# Altium footprint library Package_SO.PcbLib: 393 footprints (part 16 of 25)
Each footprint in its own frame and in the unit in brackets; x right, y up, seen from the top. Pads: shape width x height; smd on the part's side, far side on the other; paste and mask are expansions set on the pad; w line width, h text height; cw(c..) or ccw(c..) is an arc to the next point about the centre after c.
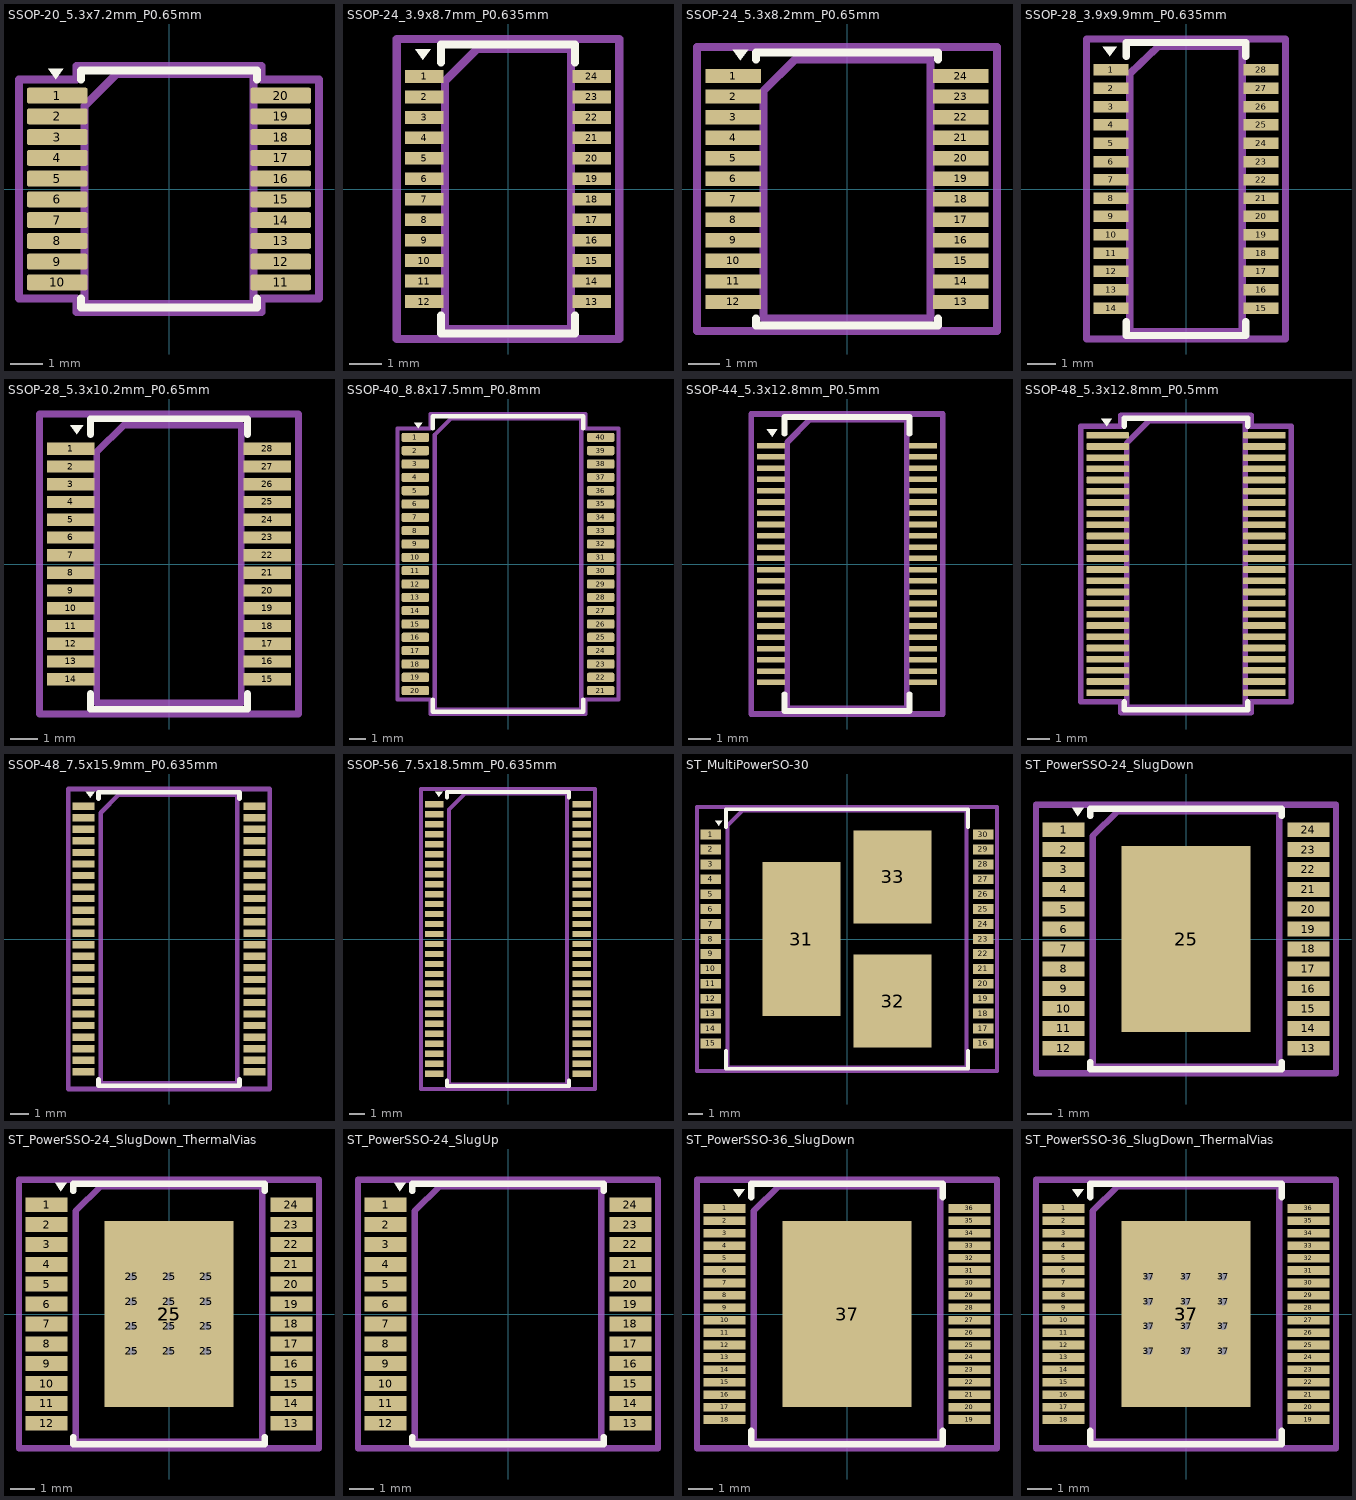
[diagram p15: the footprints below, top view; thin cyan lines are the x and y axes]

## SSOP-20_5.3x7.2mm_P0.65mm [mm]
pads (20):
  rrect25% 1.9x0.5 smd: 1(-3.5,2.925) 2(-3.5,2.275) 3(-3.5,1.625) 4(-3.5,0.975) 5(-3.5,0.325) 6(-3.5,-0.325) 7(-3.5,-0.975) 8(-3.5,-1.625) 9(-3.5,-2.275) 10(-3.5,-2.925) 11(3.5,-2.925) 12(3.5,-2.275) 13(3.5,-1.625) 14(3.5,-0.975) 15(3.5,-0.325) 16(3.5,0.325) 17(3.5,0.975) 18(3.5,1.625) 19(3.5,2.275) 20(3.5,2.925)
F.SilkS:
  region: -3.55,3.435 -3.79,3.765 -3.31,3.765
  lines w0.254: -2.76,-3.435 -2.76,-3.71 0,-3.71 2.76,-3.71 2.76,-3.435 ; -2.76,3.435 -2.76,3.71 0,3.71 2.76,3.71 2.76,3.435
Top Assembly:
  lines w0.254: -2.65,-3.6 2.65,-3.6 2.65,3.6 -1.65,3.6 -2.65,2.6 -2.65,-3.6
  text "'.Designator'" at -4.047,-0.84 h1
Top Courtyard:
  lines w0.254: -4.7,-3.43 -2.9,-3.43 -2.9,-3.85 2.9,-3.85 2.9,-3.43 4.7,-3.43 4.7,3.43 2.9,3.43 2.9,3.85 -2.9,3.85 -2.9,3.43 -4.7,3.43 -4.7,-3.43
Top Designator:
  text ".Designator" at -7.618,-0.508 h1.52

## SSOP-24_3.9x8.7mm_P0.635mm [mm]
pads (24):
  rect 1.2x0.4 smd: 1(-2.6,3.492) 2(-2.6,2.857) 3(-2.6,2.222) 4(-2.6,1.587) 5(-2.6,0.953) 6(-2.6,0.318) 7(-2.6,-0.318) 8(-2.6,-0.953) 9(-2.6,-1.587) 10(-2.6,-2.222) 11(-2.6,-2.857) 12(-2.6,-3.492) 13(2.6,-3.492) 14(2.6,-2.857) 15(2.6,-2.222) 16(2.6,-1.587) 17(2.6,-0.953) 18(2.6,-0.318) 19(2.6,0.318) 20(2.6,0.953) 21(2.6,1.587) 22(2.6,2.222) 23(2.6,2.857) 24(2.6,3.492)
F.SilkS:
  region: -2.638,4 -2.877,4.33 -2.398,4.33
  lines w0.254: -2.075,-3.918 -2.075,-4.475 2.075,-4.475 2.075,-3.918 ; -2.075,3.918 -2.075,4.475 2.075,4.475 2.075,3.918
Top Assembly:
  lines w0.254: -1.95,-4.35 1.95,-4.35 1.95,4.35 -0.95,4.35 -1.95,3.35 -1.95,-4.35
  text "'.Designator'" at -3.267,-0.702 h0.8
Top Courtyard:
  lines w0.254: -3.45,-4.65 3.45,-4.65 3.45,4.65 -3.45,4.65 -3.45,-4.65
Top Designator:
  text ".Designator" at -7.618,-0.508 h1.52

## SSOP-24_5.3x8.2mm_P0.65mm [mm]
pads (24):
  rect 1.75x0.45 smd: 1(-3.6,3.575) 2(-3.6,2.925) 3(-3.6,2.275) 4(-3.6,1.625) 5(-3.6,0.975) 6(-3.6,0.325) 7(-3.6,-0.325) 8(-3.6,-0.975) 9(-3.6,-1.625) 10(-3.6,-2.275) 11(-3.6,-2.925) 12(-3.6,-3.575) 13(3.6,-3.575) 14(3.6,-2.925) 15(3.6,-2.275) 16(3.6,-1.625) 17(3.6,-0.975) 18(3.6,-0.325) 19(3.6,0.325) 20(3.6,0.975) 21(3.6,1.625) 22(3.6,2.275) 23(3.6,2.925) 24(3.6,3.575)
F.SilkS:
  region: -3.375,4.075 -3.615,4.405 -3.135,4.405
  lines w0.254: -2.875,-4.1 -2.875,-4.325 2.875,-4.325 2.875,-4.1 ; -2.875,4.1 -2.875,4.325 2.875,4.325 2.875,4.1
Top Assembly:
  lines w0.254: -2.65,-4.1 2.65,-4.1 2.65,4.1 -1.65,4.1 -2.65,3.1 -2.65,-4.1
  text "'.Designator'" at -3.267,-0.702 h0.8
Top Courtyard:
  lines w0.254: -4.75,-4.5 4.75,-4.5 4.75,4.5 -4.75,4.5 -4.75,-4.5
Top Designator:
  text ".Designator" at -7.618,-0.508 h1.52

## SSOP-28_3.9x9.9mm_P0.635mm [mm]
pads (28):
  rect 1.2x0.4 smd: 1(-2.6,4.127) 2(-2.6,3.492) 3(-2.6,2.857) 4(-2.6,2.222) 5(-2.6,1.587) 6(-2.6,0.953) 7(-2.6,0.318) 8(-2.6,-0.318) 9(-2.6,-0.953) 10(-2.6,-1.587) 11(-2.6,-2.222) 12(-2.6,-2.857) 13(-2.6,-3.492) 14(-2.6,-4.127) 15(2.6,-4.127) 16(2.6,-3.492) 17(2.6,-2.857) 18(2.6,-2.222) 19(2.6,-1.587) 20(2.6,-0.953) 21(2.6,-0.318) 22(2.6,0.318) 23(2.6,0.953) 24(2.6,1.587) 25(2.6,2.222) 26(2.6,2.857) 27(2.6,3.492) 28(2.6,4.127)
F.SilkS:
  region: -2.638,4.6 -2.877,4.93 -2.398,4.93
  lines w0.254: -2.075,-4.6 -2.075,-5.08 2.075,-5.08 2.075,-4.6 ; -2.075,4.6 -2.075,5.08 2.075,5.08 2.075,4.6
Top Assembly:
  lines w0.254: -1.95,-4.95 1.95,-4.95 1.95,4.95 -0.95,4.95 -1.95,4 -1.95,-4.95
  text "'.Designator'" at -3.267,-0.702 h0.8
Top Courtyard:
  lines w0.254: -3.45,-5.2 3.45,-5.2 3.45,5.2 -3.45,5.2 -3.45,-5.2
Top Designator:
  text ".Designator" at -7.618,-0.508 h1.52

## SSOP-28_5.3x10.2mm_P0.65mm [mm]
pads (28):
  rect 1.75x0.45 smd: 1(-3.6,4.225) 2(-3.6,3.575) 3(-3.6,2.925) 4(-3.6,2.275) 5(-3.6,1.625) 6(-3.6,0.975) 7(-3.6,0.325) 8(-3.6,-0.325) 9(-3.6,-0.975) 10(-3.6,-1.625) 11(-3.6,-2.275) 12(-3.6,-2.925) 13(-3.6,-3.575) 14(-3.6,-4.225) 15(3.6,-4.225) 16(3.6,-3.575) 17(3.6,-2.925) 18(3.6,-2.275) 19(3.6,-1.625) 20(3.6,-0.975) 21(3.6,-0.325) 22(3.6,0.325) 23(3.6,0.975) 24(3.6,1.625) 25(3.6,2.275) 26(3.6,2.925) 27(3.6,3.575) 28(3.6,4.225)
F.SilkS:
  region: -3.375,4.75 -3.615,5.08 -3.135,5.08
  lines w0.254: -2.875,-4.75 -2.875,-5.325 2.875,-5.325 2.875,-4.75 ; -2.875,4.75 -2.875,5.325 2.875,5.325 2.875,4.75
Top Assembly:
  lines w0.254: -2.65,-5.1 2.65,-5.1 2.65,5.1 -1.65,5.1 -2.65,4.1 -2.65,-5.1
  text "'.Designator'" at -3.267,-0.702 h0.8
Top Courtyard:
  lines w0.254: -4.75,-5.5 4.75,-5.5 4.75,5.5 -4.75,5.5 -4.75,-5.5
Top Designator:
  text ".Designator" at -7.618,-0.508 h1.52

## SSOP-40_8.8x17.5mm_P0.8mm [mm]
pads (40):
  rrect25% 1.625x0.55 smd: 1(-5.563,7.6) 2(-5.563,6.8) 3(-5.563,6) 4(-5.563,5.2) 5(-5.563,4.4) 6(-5.563,3.6) 7(-5.563,2.8) 8(-5.563,2) 9(-5.563,1.2) 10(-5.563,0.4) 11(-5.563,-0.4) 12(-5.563,-1.2) 13(-5.563,-2) 14(-5.563,-2.8) 15(-5.563,-3.6) 16(-5.563,-4.4) 17(-5.563,-5.2) 18(-5.563,-6) 19(-5.563,-6.8) 20(-5.563,-7.6) 21(5.563,-7.6) 22(5.563,-6.8) 23(5.563,-6) 24(5.563,-5.2) 25(5.563,-4.4) 26(5.563,-3.6) 27(5.563,-2.8) 28(5.563,-2) 29(5.563,-1.2) 30(5.563,-0.4) 31(5.563,0.4) 32(5.563,1.2) 33(5.563,2) 34(5.563,2.8) 35(5.563,3.6) 36(5.563,4.4) 37(5.563,5.2) 38(5.563,6) 39(5.563,6.8) 40(5.563,7.6)
F.SilkS:
  region: -5.388,8.135 -5.627,8.465 -5.148,8.465
  lines w0.254: -4.51,-8.135 -4.51,-8.86 0,-8.86 4.51,-8.86 4.51,-8.135 ; -4.51,8.135 -4.51,8.86 0,8.86 4.51,8.86 4.51,8.135
Top Assembly:
  lines w0.254: -4.4,-8.75 4.4,-8.75 4.4,8.75 -3.4,8.75 -4.4,7.75 -4.4,-8.75
  text "'.Designator'" at -4.047,-0.84 h1
Top Courtyard:
  lines w0.254: -6.63,-8.13 -4.65,-8.13 -4.65,-9 4.65,-9 4.65,-8.13 6.63,-8.13 6.63,8.13 4.65,8.13 4.65,9 -4.65,9 -4.65,8.13 -6.63,8.13 -6.63,-8.13
Top Designator:
  text ".Designator" at -7.618,-0.508 h1.52

## SSOP-44_5.3x12.8mm_P0.5mm [mm]
pads (44):
  rect 1.25x0.25 smd: 1(-3.375,5.25) 2(-3.375,4.75) 3(-3.375,4.25) 4(-3.375,3.75) 5(-3.375,3.25) 6(-3.375,2.75) 7(-3.375,2.25) 8(-3.375,1.75) 9(-3.375,1.25) 10(-3.375,0.75) 11(-3.375,0.25) 12(-3.375,-0.25) 13(-3.375,-0.75) 14(-3.375,-1.25) 15(-3.375,-1.75) 16(-3.375,-2.25) 17(-3.375,-2.75) 18(-3.375,-3.25) 19(-3.375,-3.75) 20(-3.375,-4.25) 21(-3.375,-4.75) 22(-3.375,-5.25) 23(3.375,-5.25) 24(3.375,-4.75) 25(3.375,-4.25) 26(3.375,-3.75) 27(3.375,-3.25) 28(3.375,-2.75) 29(3.375,-2.25) 30(3.375,-1.75) 31(3.375,-1.25) 32(3.375,-0.75) 33(3.375,-0.25) 34(3.375,0.25) 35(3.375,0.75) 36(3.375,1.25) 37(3.375,1.75) 38(3.375,2.25) 39(3.375,2.75) 40(3.375,3.25) 41(3.375,3.75) 42(3.375,4.25) 43(3.375,4.75) 44(3.375,5.25)
F.SilkS:
  region: -3.322,5.64 -3.562,5.97 -3.082,5.97
  lines w0.254: -2.77,-5.77 -2.77,-6.52 2.77,-6.52 2.77,-5.77 ; -2.77,5.77 -2.77,6.52 2.77,6.52 2.77,5.77
Top Assembly:
  lines w0.254: -2.65,-6.4 2.65,-6.4 2.65,6.4 -1.65,6.4 -2.65,5.4 -2.65,-6.4
  text "'.Designator'" at -4.047,-0.84 h1
Top Courtyard:
  lines w0.254: -4.25,-6.65 4.25,-6.65 4.25,6.65 -4.25,6.65 -4.25,-6.65
Top Designator:
  text ".Designator" at -7.618,-0.508 h1.52

## SSOP-48_5.3x12.8mm_P0.5mm [mm]
pads (48):
  rrect25% 1.9x0.3 smd: 1(-3.5,5.75) 2(-3.5,5.25) 3(-3.5,4.75) 4(-3.5,4.25) 5(-3.5,3.75) 6(-3.5,3.25) 7(-3.5,2.75) 8(-3.5,2.25) 9(-3.5,1.75) 10(-3.5,1.25) 11(-3.5,0.75) 12(-3.5,0.25) 13(-3.5,-0.25) 14(-3.5,-0.75) 15(-3.5,-1.25) 16(-3.5,-1.75) 17(-3.5,-2.25) 18(-3.5,-2.75) 19(-3.5,-3.25) 20(-3.5,-3.75) 21(-3.5,-4.25) 22(-3.5,-4.75) 23(-3.5,-5.25) 24(-3.5,-5.75) 25(3.5,-5.75) 26(3.5,-5.25) 27(3.5,-4.75) 28(3.5,-4.25) 29(3.5,-3.75) 30(3.5,-3.25) 31(3.5,-2.75) 32(3.5,-2.25) 33(3.5,-1.75) 34(3.5,-1.25) 35(3.5,-0.75) 36(3.5,-0.25) 37(3.5,0.25) 38(3.5,0.75) 39(3.5,1.25) 40(3.5,1.75) 41(3.5,2.25) 42(3.5,2.75) 43(3.5,3.25) 44(3.5,3.75) 45(3.5,4.25) 46(3.5,4.75) 47(3.5,5.25) 48(3.5,5.75)
F.SilkS:
  region: -3.55,6.16 -3.79,6.49 -3.31,6.49
  lines w0.254: -2.76,-6.16 -2.76,-6.51 0,-6.51 2.76,-6.51 2.76,-6.16 ; -2.76,6.16 -2.76,6.51 0,6.51 2.76,6.51 2.76,6.16
Top Assembly:
  lines w0.254: -2.65,-6.4 2.65,-6.4 2.65,6.4 -1.65,6.4 -2.65,5.4 -2.65,-6.4
  text "'.Designator'" at -4.047,-0.84 h1
Top Courtyard:
  lines w0.254: -4.7,-6.15 -2.9,-6.15 -2.9,-6.65 2.9,-6.65 2.9,-6.15 4.7,-6.15 4.7,6.15 2.9,6.15 2.9,6.65 -2.9,6.65 -2.9,6.15 -4.7,6.15 -4.7,-6.15
Top Designator:
  text ".Designator" at -7.618,-0.508 h1.52

## SSOP-48_7.5x15.9mm_P0.635mm [mm]
pads (48):
  rect 1.2x0.4 smd: 1(-4.7,7.302) 2(-4.7,6.667) 3(-4.7,6.032) 4(-4.7,5.397) 5(-4.7,4.763) 6(-4.7,4.127) 7(-4.7,3.492) 8(-4.7,2.857) 9(-4.7,2.222) 10(-4.7,1.587) 11(-4.7,0.953) 12(-4.7,0.318) 13(-4.7,-0.318) 14(-4.7,-0.953) 15(-4.7,-1.587) 16(-4.7,-2.222) 17(-4.7,-2.857) 18(-4.7,-3.492) 19(-4.7,-4.127) 20(-4.7,-4.763) 21(-4.7,-5.397) 22(-4.7,-6.032) 23(-4.7,-6.667) 24(-4.7,-7.302) 25(4.7,-7.302) 26(4.7,-6.667) 27(4.7,-6.032) 28(4.7,-5.397) 29(4.7,-4.763) 30(4.7,-4.127) 31(4.7,-3.492) 32(4.7,-2.857) 33(4.7,-2.222) 34(4.7,-1.587) 35(4.7,-0.953) 36(4.7,-0.318) 37(4.7,0.318) 38(4.7,0.953) 39(4.7,1.587) 40(4.7,2.222) 41(4.7,2.857) 42(4.7,3.492) 43(4.7,4.127) 44(4.7,4.763) 45(4.7,5.397) 46(4.7,6.032) 47(4.7,6.667) 48(4.7,7.302)
F.SilkS:
  region: -4.325,7.775 -4.565,8.105 -4.085,8.105
  lines w0.254: -3.875,-7.728 -3.875,-8.075 3.875,-8.075 3.875,-7.728 ; -3.875,7.728 -3.875,8.075 3.875,8.075 3.875,7.728
Top Assembly:
  lines w0.254: -3.75,-7.95 3.75,-7.95 3.75,7.95 -2.75,7.95 -3.75,6.95 -3.75,-7.95
  text "'.Designator'" at -3.267,-0.702 h0.8
Top Courtyard:
  lines w0.254: -5.55,-8.25 5.55,-8.25 5.55,8.25 -5.55,8.25 -5.55,-8.25
Top Designator:
  text ".Designator" at -7.618,-0.508 h1.52

## SSOP-56_7.5x18.5mm_P0.635mm [mm]
pads (56):
  rect 1.2x0.4 smd: 1(-4.7,8.572) 2(-4.7,7.938) 3(-4.7,7.302) 4(-4.7,6.667) 5(-4.7,6.032) 6(-4.7,5.397) 7(-4.7,4.763) 8(-4.7,4.127) 9(-4.7,3.492) 10(-4.7,2.857) 11(-4.7,2.222) 12(-4.7,1.587) 13(-4.7,0.953) 14(-4.7,0.318) 15(-4.7,-0.318) 16(-4.7,-0.953) 17(-4.7,-1.587) 18(-4.7,-2.222) 19(-4.7,-2.857) 20(-4.7,-3.492) 21(-4.7,-4.127) 22(-4.7,-4.763) 23(-4.7,-5.397) 24(-4.7,-6.032) 25(-4.7,-6.667) 26(-4.7,-7.302) 27(-4.7,-7.938) 28(-4.7,-8.572) 29(4.7,-8.572) 30(4.7,-7.938) 31(4.7,-7.302) 32(4.7,-6.667) 33(4.7,-6.032) 34(4.7,-5.397) 35(4.7,-4.763) 36(4.7,-4.127) 37(4.7,-3.492) 38(4.7,-2.857) 39(4.7,-2.222) 40(4.7,-1.587) 41(4.7,-0.953) 42(4.7,-0.318) 43(4.7,0.318) 44(4.7,0.953) 45(4.7,1.587) 46(4.7,2.222) 47(4.7,2.857) 48(4.7,3.492) 49(4.7,4.127) 50(4.7,4.763) 51(4.7,5.397) 52(4.7,6.032) 53(4.7,6.667) 54(4.7,7.302) 55(4.7,7.938) 56(4.7,8.572)
F.SilkS:
  region: -4.4,9.05 -4.64,9.38 -4.16,9.38
  lines w0.254: -3.875,-8.998 -3.875,-9.35 3.875,-9.35 3.875,-8.998 ; -3.875,8.998 -3.875,9.35 3.875,9.35 3.875,8.998
Top Assembly:
  lines w0.254: -3.75,-9.25 3.75,-9.25 3.75,9.25 -2.75,9.25 -3.75,8.25 -3.75,-9.25
  text "'.Designator'" at -3.267,-0.702 h0.8
Top Courtyard:
  lines w0.254: -5.55,-9.55 5.55,-9.55 5.55,9.55 -5.55,9.55 -5.55,-9.55
Top Designator:
  text ".Designator" at -7.618,-0.508 h1.52

## ST_MultiPowerSO-30 [mm]
pads (33):
  rect 1.35x0.66 smd: 1(-9.125,7) 2(-9.125,6) 3(-9.125,5) 4(-9.125,4) 5(-9.125,3) 6(-9.125,2) 7(-9.125,1) 8(-9.125,0) 9(-9.125,-1) 10(-9.125,-2) 11(-9.125,-3) 12(-9.125,-4) 13(-9.125,-5) 14(-9.125,-6) 15(-9.125,-7) 16(9.125,-7) 17(9.125,-6) 18(9.125,-5) 19(9.125,-4) 20(9.125,-3) 21(9.125,-2) 22(9.125,-1) 23(9.125,0) 24(9.125,1) 25(9.125,2) 26(9.125,3) 27(9.125,4) 28(9.125,5) 29(9.125,6) 30(9.125,7)
  rect 5.25x10.3 smd: 31(-3.05,0)
  rect 5.25x6.23 smd: 32(3.05,-4.165) 33(3.05,4.165)
F.SilkS:
  region: -8.6,7.6 -8.84,7.93 -8.36,7.93
  lines w0.254: -8.1,-7.5 -8.1,-8.7 8,-8.7 8.1,-8.7 8.1,-7.5 ; -8.1,7.5 -8.1,8.7 -8,8.7 8,8.7 8.1,8.7 8.1,7.5
Top Assembly:
  lines w0.254: -8,-8.6 8,-8.6 8,8.6 -7,8.6 -8,7.6 -8,-8.6
  text "'.Designator'" at -4.047,-0.84 h1
Top Courtyard:
  lines w0.254: -10.05,-8.85 10.05,-8.85 10.05,8.85 -10.05,8.85 -10.05,-8.85
Top Designator:
  text ".Designator" at -7.618,-0.508 h1.52

## ST_PowerSSO-24_SlugDown [mm]
pads (25):
  rect 1.7x0.6 smd: 1(-4.932,4.4) 2(-4.932,3.6) 3(-4.932,2.8) 4(-4.932,2) 5(-4.932,1.2) 6(-4.932,0.4) 7(-4.932,-0.4) 8(-4.932,-1.2) 9(-4.932,-2) 10(-4.932,-2.8) 11(-4.932,-3.6) 12(-4.932,-4.4) 13(4.932,-4.4) 14(4.932,-3.6) 15(4.932,-2.8) 16(4.932,-2) 17(4.932,-1.2) 18(4.932,-0.4) 19(4.932,0.4) 20(4.932,1.2) 21(4.932,2) 22(4.932,2.8) 23(4.932,3.6) 24(4.932,4.4)
  rect 5.2x7.5 smd: 25(0,0)
F.SilkS:
  region: -4.35,4.95 -4.59,5.28 -4.11,5.28
  lines w0.254: -3.85,-4.95 -3.85,-5.25 3.85,-5.25 3.85,-4.95 ; -3.85,4.95 -3.85,5.25 3.85,5.25 3.85,4.95
Top Assembly:
  lines w0.254: -3.75,-5.15 3.75,-5.15 3.75,5.15 -2.75,5.15 -3.75,4.15 -3.75,-5.15
  text "'.Designator'" at -4.047,-0.84 h1
Top Courtyard:
  lines w0.254: -6.04,-5.4 6.04,-5.4 6.04,5.4 -6.04,5.4 -6.04,-5.4
Top Designator:
  text ".Designator" at -7.618,-0.508 h1.52

## ST_PowerSSO-24_SlugDown_ThermalVias [mm]
pads (38):
  rect 1.7x0.6 smd: 1(-4.932,4.4) 2(-4.932,3.6) 3(-4.932,2.8) 4(-4.932,2) 5(-4.932,1.2) 6(-4.932,0.4) 7(-4.932,-0.4) 8(-4.932,-1.2) 9(-4.932,-2) 10(-4.932,-2.8) 11(-4.932,-3.6) 12(-4.932,-4.4) 13(4.932,-4.4) 14(4.932,-3.6) 15(4.932,-2.8) 16(4.932,-2) 17(4.932,-1.2) 18(4.932,-0.4) 19(4.932,0.4) 20(4.932,1.2) 21(4.932,2) 22(4.932,2.8) 23(4.932,3.6) 24(4.932,4.4)
  round 0.7 hole 0.3: 25(-1.5,-1.5) 25(-1.5,-0.5) 25(-1.5,0.5) 25(-1.5,1.5) 25(0,-1.5) 25(0,-0.5) 25(0,0.5) 25(0,1.5) 25(1.5,-1.5) 25(1.5,-0.5) 25(1.5,0.5) 25(1.5,1.5)
  rect 5.2x7.5 smd: 25(0,0)
  rect 4.3x4.3 smd far side: 25(0,0)
F.SilkS:
  region: -4.35,4.95 -4.59,5.28 -4.11,5.28
  lines w0.254: -3.85,-4.95 -3.85,-5.25 3.85,-5.25 3.85,-4.95 ; -3.85,4.95 -3.85,5.25 3.85,5.25 3.85,4.95
Top Assembly:
  lines w0.254: -3.75,-5.15 3.75,-5.15 3.75,5.15 -2.75,5.15 -3.75,4.15 -3.75,-5.15
  text "'.Designator'" at -4.047,-0.84 h1
Top Courtyard:
  lines w0.254: -6.04,-5.4 6.04,-5.4 6.04,5.4 -6.04,5.4 -6.04,-5.4
Top Designator:
  text ".Designator" at -7.618,-0.508 h1.52

## ST_PowerSSO-24_SlugUp [mm]
pads (24):
  rect 1.7x0.6 smd: 1(-4.932,4.4) 2(-4.932,3.6) 3(-4.932,2.8) 4(-4.932,2) 5(-4.932,1.2) 6(-4.932,0.4) 7(-4.932,-0.4) 8(-4.932,-1.2) 9(-4.932,-2) 10(-4.932,-2.8) 11(-4.932,-3.6) 12(-4.932,-4.4) 13(4.932,-4.4) 14(4.932,-3.6) 15(4.932,-2.8) 16(4.932,-2) 17(4.932,-1.2) 18(4.932,-0.4) 19(4.932,0.4) 20(4.932,1.2) 21(4.932,2) 22(4.932,2.8) 23(4.932,3.6) 24(4.932,4.4)
F.SilkS:
  region: -4.35,4.95 -4.59,5.28 -4.11,5.28
  lines w0.254: -3.85,-4.95 -3.85,-5.25 3.85,-5.25 3.85,-4.95 ; -3.85,4.95 -3.85,5.25 3.85,5.25 3.85,4.95
Top Assembly:
  lines w0.254: -3.75,-5.15 3.75,-5.15 3.75,5.15 -2.75,5.15 -3.75,4.15 -3.75,-5.15
  text "'.Designator'" at -4.047,-0.84 h1
Top Courtyard:
  lines w0.254: -6.04,-5.4 6.04,-5.4 6.04,5.4 -6.04,5.4 -6.04,-5.4
Top Designator:
  text ".Designator" at -7.618,-0.508 h1.52

## ST_PowerSSO-36_SlugDown [mm]
pads (37):
  rect 1.7x0.35 smd: 1(-4.932,4.25) 2(-4.932,3.75) 3(-4.932,3.25) 4(-4.932,2.75) 5(-4.932,2.25) 6(-4.932,1.75) 7(-4.932,1.25) 8(-4.932,0.75) 9(-4.932,0.25) 10(-4.932,-0.25) 11(-4.932,-0.75) 12(-4.932,-1.25) 13(-4.932,-1.75) 14(-4.932,-2.25) 15(-4.932,-2.75) 16(-4.932,-3.25) 17(-4.932,-3.75) 18(-4.932,-4.25) 19(4.932,-4.25) 20(4.932,-3.75) 21(4.932,-3.25) 22(4.932,-2.75) 23(4.932,-2.25) 24(4.932,-1.75) 25(4.932,-1.25) 26(4.932,-0.75) 27(4.932,-0.25) 28(4.932,0.25) 29(4.932,0.75) 30(4.932,1.25) 31(4.932,1.75) 32(4.932,2.25) 33(4.932,2.75) 34(4.932,3.25) 35(4.932,3.75) 36(4.932,4.25)
  rect 5.2x7.5 smd: 37(0,0)
F.SilkS:
  region: -4.35,4.7 -4.59,5.03 -4.11,5.03
  lines w0.254: -3.85,-4.7 -3.85,-5.25 3.85,-5.25 3.85,-4.7 ; -3.85,4.7 -3.85,5.25 3.85,5.25 3.85,4.7
Top Assembly:
  lines w0.254: -3.75,-5.15 3.75,-5.15 3.75,5.15 -2.75,5.15 -3.75,4.15 -3.75,-5.15
  text "'.Designator'" at -4.047,-0.84 h1
Top Courtyard:
  lines w0.254: -6.04,-5.4 6.04,-5.4 6.04,5.4 -6.04,5.4 -6.04,-5.4
Top Designator:
  text ".Designator" at -7.618,-0.508 h1.52

## ST_PowerSSO-36_SlugDown_ThermalVias [mm]
pads (50):
  rect 1.7x0.35 smd: 1(-4.932,4.25) 2(-4.932,3.75) 3(-4.932,3.25) 4(-4.932,2.75) 5(-4.932,2.25) 6(-4.932,1.75) 7(-4.932,1.25) 8(-4.932,0.75) 9(-4.932,0.25) 10(-4.932,-0.25) 11(-4.932,-0.75) 12(-4.932,-1.25) 13(-4.932,-1.75) 14(-4.932,-2.25) 15(-4.932,-2.75) 16(-4.932,-3.25) 17(-4.932,-3.75) 18(-4.932,-4.25) 19(4.932,-4.25) 20(4.932,-3.75) 21(4.932,-3.25) 22(4.932,-2.75) 23(4.932,-2.25) 24(4.932,-1.75) 25(4.932,-1.25) 26(4.932,-0.75) 27(4.932,-0.25) 28(4.932,0.25) 29(4.932,0.75) 30(4.932,1.25) 31(4.932,1.75) 32(4.932,2.25) 33(4.932,2.75) 34(4.932,3.25) 35(4.932,3.75) 36(4.932,4.25)
  round 0.6 hole 0.3: 37(-1.5,-1.5) 37(-1.5,-0.5) 37(-1.5,0.5) 37(-1.5,1.5) 37(0,-1.5) 37(0,-0.5) 37(0,0.5) 37(0,1.5) 37(1.5,-1.5) 37(1.5,-0.5) 37(1.5,0.5) 37(1.5,1.5)
  rect 5.2x7.5 smd: 37(0,0)
  rect 4.3x4.3 smd far side: 37(0,0)
F.SilkS:
  region: -4.35,4.7 -4.59,5.03 -4.11,5.03
  lines w0.254: -3.85,-4.7 -3.85,-5.25 3.85,-5.25 3.85,-4.7 ; -3.85,4.7 -3.85,5.25 3.85,5.25 3.85,4.7
Top Assembly:
  lines w0.254: -3.75,-5.15 3.75,-5.15 3.75,5.15 -2.75,5.15 -3.75,4.15 -3.75,-5.15
  text "'.Designator'" at -4.047,-0.84 h1
Top Courtyard:
  lines w0.254: -6.04,-5.4 6.04,-5.4 6.04,5.4 -6.04,5.4 -6.04,-5.4
Top Designator:
  text ".Designator" at -7.618,-0.508 h1.52